# EAGLE library part JM16A (library JM16A-Vanheden)
LCD Character Display Modules & Accessories STN- GRAY Transfl 80.0 x 36.0 Source: Datasheet <http://www.newhavendisplay.com/specs/NHD-0216XZ-FSW-GBW.pdf>
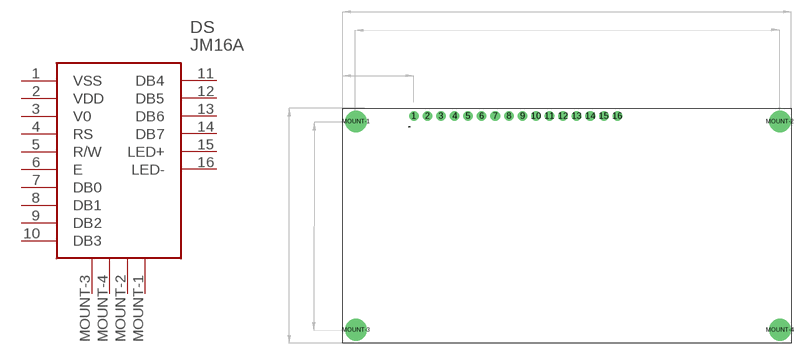
[diagram p0: symbol with the pads of JM16A; footprint JM16A]

Designator prefix DS

## JM16A (ALLIED_NUMBER: 70518104; ALLIED_PRICE-STOCK: https://www.alliedelec.com/newhaven-display-international-nhd-0216xz-fsw-gbw/70518104/; DESCRIPTION: LCD Character Display Modules & Accessories STN- GRAY Transfl 80.0 x 36.0; HEIGHT: 7mm; MANUFACTURER_NAME: Newhaven Display; MANUFACTURER_PART_NUMBER: NHD-0216XZ-FSW-GBW; MOUSER_PART_NUMBER: 763-0216XZ-FSW-GBW; MOUSER_PRICE-STOCK: https://www.mouser.com/Search/Refine.aspx?Keyword=763-0216XZ-FSW-GBW)  [JM16A]
1  VSS
2  VDD
3  V0
4  RS
5  R/W
6  E
7  DB0
8  DB1
9  DB2
10  DB3
11  DB4
12  DB5
13  DB6
14  DB7
15  LED+
16  LED-
MOUNT-1  MOUNT-4
MOUNT-2  MOUNT-3
MOUNT-3  MOUNT-1
MOUNT-4  MOUNT-2

## Footprint JM16A (pad centres in mm)
NHD-0216XZ-FSW-GBW
drill 1.2 pad 1.8: 1 13.34,-1.542; 2 15.88,-1.542; 3 18.42,-1.542; 4 20.96,-1.542; 5 23.5,-1.542; 6 26.04,-1.542; 7 28.58,-1.542; 8 31.12,-1.542; 9 33.66,-1.542; 10 36.2,-1.542; 11 38.74,-1.542; 12 41.28,-1.542; 13 43.82,-1.542; 14 46.36,-1.542; 15 48.9,-1.542; 16 51.44,-1.542
drill 2.7 pad 4.05: MOUNT-1 2.521,-2.55; MOUNT-2 81.85,-2.55; MOUNT-3 2.521,-41.55; MOUNT-4 81.85,-41.55